# Altium schematic symbol library Oscillators.SchLib: 2 symbols
Pins are listed as number, name and electrical type; pins without a type are passive.

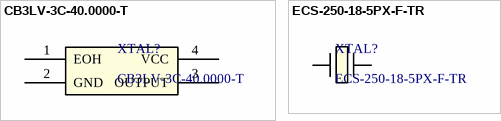
[diagram p0: symbols CB3LV-3C-40.0000-T to ECS-250-18-5PX-F-TR]

## CB3LV-3C-40.0000-T
designator XTAL?
40Mhz 3.3v 50ppm; Vendor: CTS Components; Built_By: EMA_Cory; SourceLibrary: CTS_2020-03-09; Datasheet: https://www.ctscorp.com/wp-content/uploads/2015/11/008-0256-0.pdf; Manufacturer_Part_Number: CB3LV-3C-40.0000-T; Copyright: Copyright (C) 2018 Accelerated Designs. All rights reserved; RefDes: RefDes; Type: DEV
footprint CB3LV-3C-40.0000-T(My_Big)
pins: 1 EOH, 2 GND, 3 OUTPUT, 4 VCC (power)

## ECS-250-18-5PX-F-TR
designator XTAL?
No Description Available; Vendor: ECS International; Built_By: EMA_Kyle; SourceLibrary: Add_to_database_2021-03-09; Datasheet: https://ecsxtal.com/store/pdf/csm-7x.pdf; Manufacturer_Part_Number: ECS-250-18-5PX-F-TR; Copyright: Copyright (C) 2018 Accelerated Designs. All rights reserved; RefDes: RefDes; Type: DEV
footprint CRYSTAL_ECS-250-18-5PX-F-TR_ECS-M
pins: 1, 2